# EAGLE library part MOCD207R2M (library OPTOISOLATOR)
Optoisolator Transistor Output 2500Vrms 2 Channel 8-SOIC Manufacturer's datasheet <https://www.onsemi.com/pub/Collateral/MOCD217M-D.PDF>
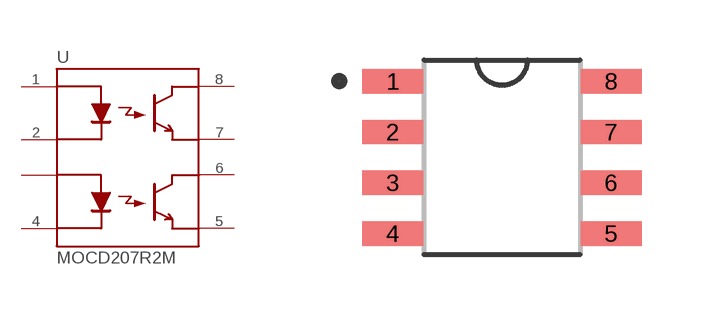
[diagram p1: symbol with the pads of MOCD207R2M; footprint MOCD207R2M]

Designator prefix U

## MOCD207R2M (CREATED_BY: PCBLayout.com; DIGIKEY_PART_NUMBER: MOCD207R2MCT-ND; MANUFACTURER: ON Semiconductor; MPN: MOCD207R2M; PACKAGE: 8-SOIC)  [MOCD207R2M]
1  ANODE1  pas
2  CATHODE1  pas
3  ANODE2  pas
4  CATHODE2  pas
5  EMITTER2  pas
6  COLLECTOR2  pas
7  EMITTER1  pas
8  COLLECTOR1  pas

## Footprint MOCD207R2M (pad centres in mm)
smd 1.52 x 0.61: 1 -2.73,1.905; 2 -2.73,0.635; 3 -2.73,-0.635; 4 -2.73,-1.905; 5 2.73,-1.905; 6 2.73,-0.635; 7 2.73,0.635; 8 2.73,1.905